# Altium footprint library PCB - POWER INDUCTORS - WURTH WE-LQS 8040.PcbLib: 1 footprints
Each footprint in its own frame and in the unit in brackets; x right, y up, seen from the top. Pads: shape width x height; smd on the part's side, far side on the other; paste and mask are expansions set on the pad; w line width, h text height; cw(c..) or ccw(c..) is an arc to the next point about the centre after c.
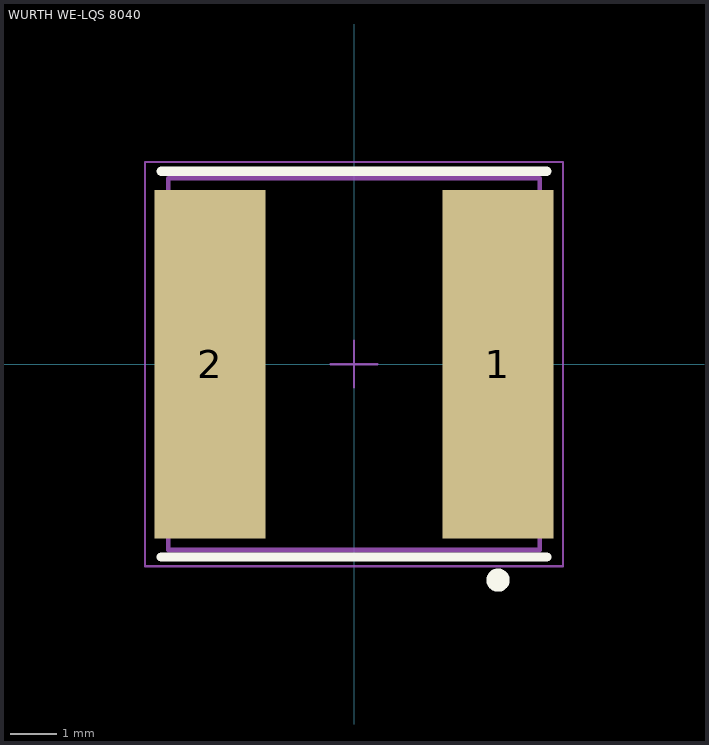
[diagram p0: the footprint, top view; thin cyan lines are the x and y axes]

## WURTH WE-LQS 8040 [mm] "SMD Power Inductor, 2-Leads, body 8x8mm"
height 4.2
pads (2):
  rect 2.4x7.5 smd: 1(3.1,0) 2(-3.1,0)
Top Overlay:
  circle w0.25: c3.1,-4.65 r0.125
  lines w0.2: -4.15,-4.15 4.15,-4.15 ; -4.15,4.15 4.15,4.15
Top 3D Body:
  circle w0.1: c3,-3 r0.4
  lines w0.1: -4,-4 4,-4 4,4 -4,4 -4,-4
Top Component Outline:
  circle w0.1: c3,-3 r0.4
  lines w0.1: -4,-4 4,-4 4,4 -4,4 -4,-4
Top Courtyard:
  lines w0.05: -0.5,0 0.5,0 ; 0,-0.5 0,0.5 ; -4.5,-4.35 -4.5,4.35 4.5,4.35 4.5,-4.35 -4.5,-4.35
3D body "LQS_8040.stp": height 4.2, standoff 0, extent -4,-4 4,4